# EAGLE library part LT3590 (library PowerProducts)
LT-Spice library generated with : ltspice.ulp from: D:/Program Files (x86)/LTC/LTspiceIV/lib/sym/PowerProducts/LT3591*.asy at 07.10.2012 16:15:24
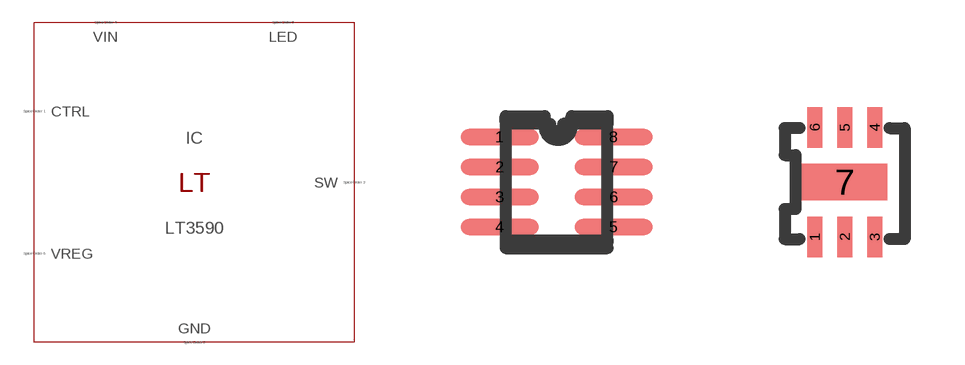
[diagram p6: symbol with the pads of SOT8(SC8); footprints SOT8(SC8), DFN6(DC)]

Designator prefix IC

## LT3590SC8 (SPICEMODEL: LT1762.lib; SPICEPREFIX: X; VALUE2: LT1762)  [SOT8(SC8)]
1  SW  pas
2  GND  pas
3  GND  pas
4  GND  pas
5  CTRL  pas
6  VREG  pas
7  LED  pas
8  VIN  pas

## LT3590 (SPICEMODEL: LT1762.lib; SPICEPREFIX: X; VALUE2: LT1762)  [DFN6(DC)]
1  CTRL  pas
2  GND  pas
3  SW  pas
4  VIN  pas
5  LED  pas
6  VREG  pas
7  GND  pas

## Footprint SOT8(SC8) (pad centres in mm)
Package generated from: SOT8(SC8).asc (!PADS-POWERPCB-V5.0-BASIC! DESIGN DATABASE ASCII FILE 1.0) with :import-pads-powerpcb-v5.ulp Version 1.0.1 at 04.10.2012 14:11:36
smd 1.95 x 0.405: 1 -1.425,1.125; 2 -1.425,0.375; 3 -1.425,-0.375; 4 -1.425,-1.125; 5 1.425,-1.125; 6 1.425,-0.375; 7 1.425,0.375; 8 1.425,1.125

## Footprint DFN6(DC) (pad centres in mm)
Package generated from: DFN6(DC).asc (!PADS-POWERPCB-V5.0-BASIC! DESIGN DATABASE ASCII FILE 1.0) with :import-pads-powerpcb-v5.ulp Version 1.0.1 at 04.10.2012 14:11:17
smd 0.375 x 1.012: 1 -0.75,-1.369; 2 0,-1.369; 3 0.75,-1.369; 4 0.75,1.369; 5 0,1.369; 6 -0.75,1.369
smd 2.13 x 0.915: 7 0,0